# EAGLE library part A4988 (library Allegro)
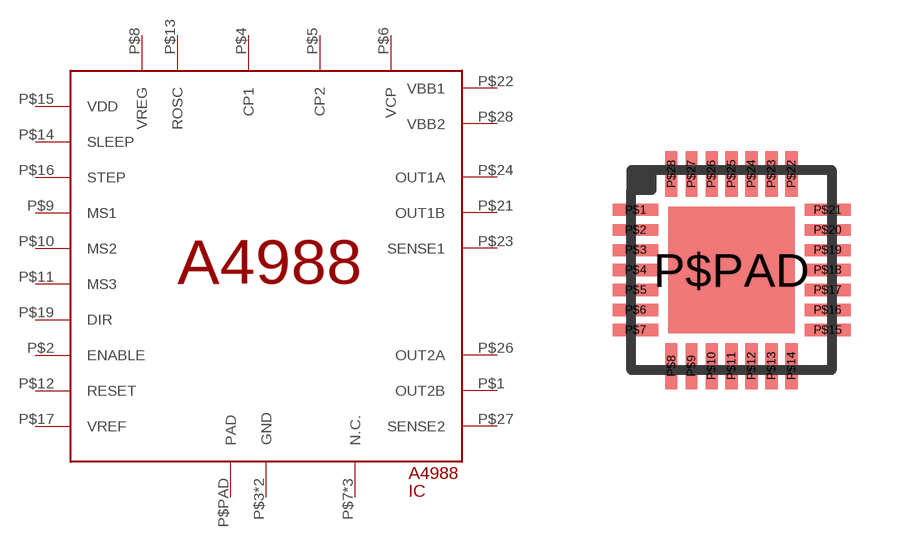
[diagram p0: symbol with the pads of ET_PACKGE,28PIN_WITH_EXPAD; footprint ET_PACKGE,28PIN_WITH_EXPAD]

Designator prefix IC

## A4988  [ET_PACKGE,28PIN_WITH_EXPAD]
P$1  OUT2B
P$2  ENABLE
P$3  GND
P$4  CP1
P$5  CP2
P$6  VCP
P$7  N.C.
P$8  VREG
P$9  MS1
P$10  MS2
P$11  MS3
P$12  RESET
P$13  ROSC
P$14  SLEEP
P$15  VDD
P$16  STEP
P$17  VREF
P$18  GND
P$19  DIR
P$20  N.C.
P$21  OUT1B
P$22  VBB1
P$23  SENSE1
P$24  OUT1A
P$25  N.C.
P$26  OUT2A
P$27  SENSE2
P$28  VBB2
P$PAD  PAD

## Footprint ET_PACKGE,28PIN_WITH_EXPAD (pad centres in mm)
smd 1.15 x 0.3: P$1 -2.4,1.5; P$2 -2.4,1; P$3 -2.4,0.5; P$4 -2.4,0; P$5 -2.4,-0.5; P$6 -2.4,-1; P$7 -2.4,-1.5; P$15 2.4,-1.5; P$16 2.4,-1; P$17 2.4,-0.5; P$18 2.4,0; P$19 2.4,0.5; P$20 2.4,1; P$21 2.4,1.5
smd 0.3 x 1.15: P$8 -1.5,-2.4; P$9 -1,-2.4; P$10 -0.5,-2.4; P$11 0,-2.4; P$12 0.5,-2.4; P$13 1,-2.4; P$14 1.5,-2.4; P$22 1.5,2.4; P$23 1,2.4; P$24 0.5,2.4; P$25 0,2.4; P$26 -0.5,2.4; P$27 -1,2.4; P$28 -1.5,2.4
smd 3.15 x 3.15: P$PAD 0,0